# EAGLE library part QSE-060-01 (library 1A-meinLib)
0,80mm HI-SPEED SOCKET QSE Serie Source: http://www.samtec.com/ftppub/cpdf/QSE-XXX-01-X-D-XX-FOOTPRINT.pdf http://www.samtec.com/ftppub/pdf/QSE.PDF
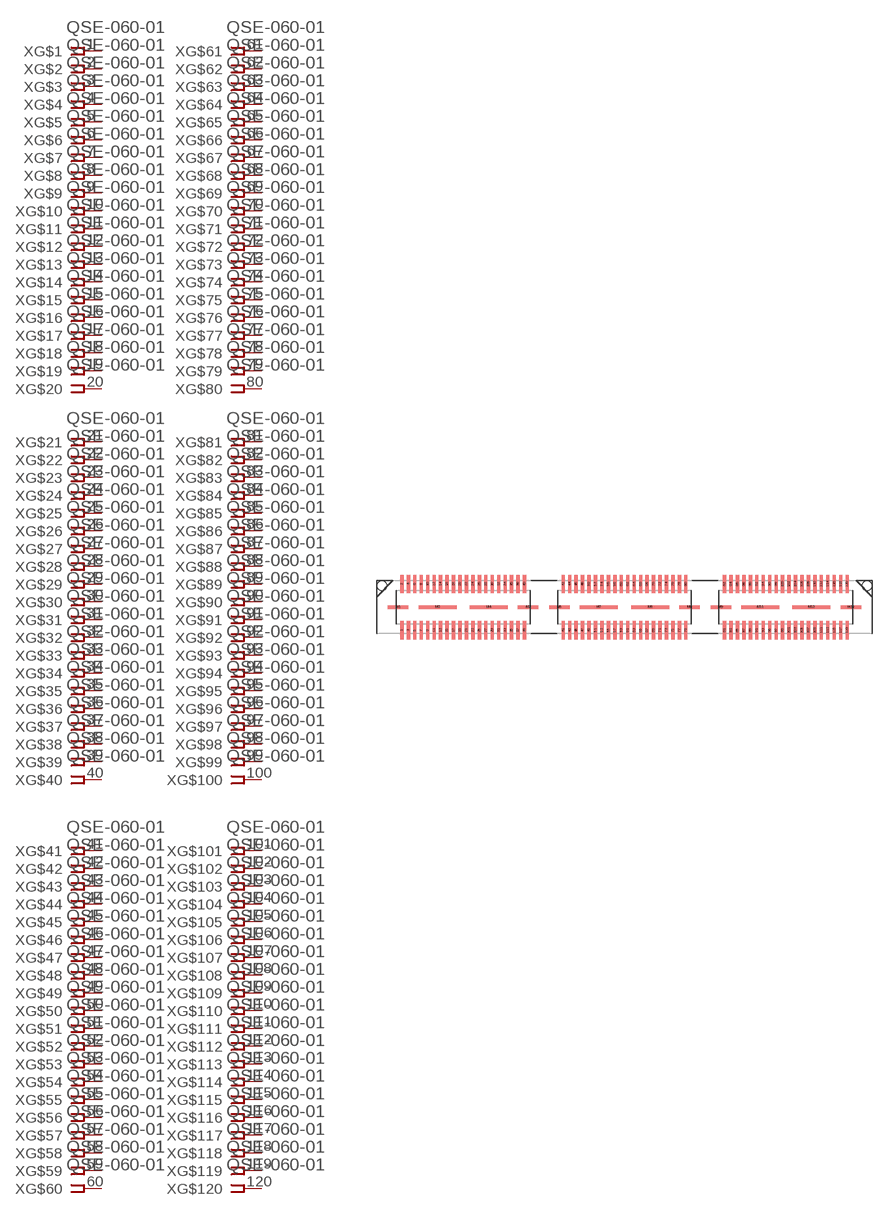
[diagram p383: symbol with the pads of QSE-060-01; footprint QSE-060-01]

Designator prefix X; gates G$1=FPINV G$2=FPINV G$3=FPINV G$4=FPINV G$5=FPINV G$6=FPINV G$7=FPINV G$8=FPINV G$9=FPINV G$10=FPINV G$11=FPINV G$12=FPINV G$13=FPINV G$14=FPINV G$15=FPINV G$16=FPINV G$17=FPINV G$18=FPINV G$19=FPINV G$20=FPINV G$21=FPINV G$22=FPINV G$23=FPINV G$24=FPINV G$25=FPINV G$26=FPINV G$27=FPINV G$28=FPINV G$29=FPINV G$30=FPINV G$31=FPINV G$32=FPINV G$33=FPINV G$34=FPINV G$35=FPINV G$36=FPINV G$37=FPINV G$38=FPINV G$39=FPINV G$40=FPINV G$41=FPINV G$42=FPINV G$43=FPINV G$44=FPINV G$45=FPINV G$46=FPINV G$47=FPINV G$48=FPINV G$49=FPINV G$50=FPINV G$51=FPINV G$52=FPINV G$53=FPINV G$54=FPINV G$55=FPINV G$56=FPINV G$57=FPINV G$58=FPINV G$59=FPINV G$60=FPINV G$61=FPINV G$62=FPINV G$63=FPINV G$64=FPINV G$65=FPINV G$66=FPINV G$67=FPINV G$68=FPINV G$69=FPINV G$70=FPINV G$71=FPINV G$72=FPINV G$73=FPINV G$74=FPINV G$75=FPINV G$76=FPINV G$77=FPINV G$78=FPINV G$79=FPINV G$80=FPINV G$81=FPINV G$82=FPINV G$83=FPINV G$84=FPINV G$85=FPINV G$86=FPINV G$87=FPINV G$88=FPINV G$89=FPINV G$90=FPINV G$91=FPINV G$92=FPINV G$93=FPINV G$94=FPINV G$95=FPINV G$96=FPINV G$97=FPINV G$98=FPINV G$99=FPINV G$100=FPINV G$101=FPINV G$102=FPINV G$103=FPINV G$104=FPINV G$105=FPINV G$106=FPINV G$107=FPINV G$108=FPINV G$109=FPINV G$110=FPINV G$111=FPINV G$112=FPINV G$113=FPINV G$114=FPINV G$115=FPINV G$116=FPINV G$117=FPINV G$118=FPINV G$119=FPINV G$120=FPINV

## QSE-060-01  [QSE-060-01]
1  G$1:1  pas
2  G$2:1  pas
3  G$3:1  pas
4  G$4:1  pas
5  G$5:1  pas
6  G$6:1  pas
7  G$7:1  pas
8  G$8:1  pas
9  G$9:1  pas
10  G$10:1  pas
11  G$11:1  pas
12  G$12:1  pas
13  G$13:1  pas
14  G$14:1  pas
15  G$15:1  pas
16  G$16:1  pas
17  G$17:1  pas
18  G$18:1  pas
19  G$19:1  pas
20  G$20:1  pas
21  G$21:1  pas
22  G$22:1  pas
23  G$23:1  pas
24  G$24:1  pas
25  G$25:1  pas
26  G$26:1  pas
27  G$27:1  pas
28  G$28:1  pas
29  G$29:1  pas
30  G$30:1  pas
31  G$31:1  pas
32  G$32:1  pas
33  G$33:1  pas
34  G$34:1  pas
35  G$35:1  pas
36  G$36:1  pas
37  G$37:1  pas
38  G$38:1  pas
39  G$39:1  pas
40  G$40:1  pas
41  G$41:1  pas
42  G$42:1  pas
43  G$43:1  pas
44  G$44:1  pas
45  G$45:1  pas
46  G$46:1  pas
47  G$47:1  pas
48  G$48:1  pas
49  G$49:1  pas
50  G$50:1  pas
51  G$51:1  pas
52  G$52:1  pas
53  G$53:1  pas
54  G$54:1  pas
55  G$55:1  pas
56  G$56:1  pas
57  G$57:1  pas
58  G$58:1  pas
59  G$59:1  pas
60  G$60:1  pas
61  G$61:1  pas
62  G$62:1  pas
63  G$63:1  pas
64  G$64:1  pas
65  G$65:1  pas
66  G$66:1  pas
67  G$67:1  pas
68  G$68:1  pas
69  G$69:1  pas
70  G$70:1  pas
71  G$71:1  pas
72  G$72:1  pas
73  G$73:1  pas
74  G$74:1  pas
75  G$75:1  pas
76  G$76:1  pas
77  G$77:1  pas
78  G$78:1  pas
79  G$79:1  pas
80  G$80:1  pas
81  G$81:1  pas
82  G$82:1  pas
83  G$83:1  pas
84  G$84:1  pas
85  G$85:1  pas
86  G$86:1  pas
87  G$87:1  pas
88  G$88:1  pas
89  G$89:1  pas
90  G$90:1  pas
91  G$91:1  pas
92  G$92:1  pas
93  G$93:1  pas
94  G$94:1  pas
95  G$95:1  pas
96  G$96:1  pas
97  G$97:1  pas
98  G$98:1  pas
99  G$99:1  pas
100  G$100:1  pas
101  G$101:1  pas
102  G$102:1  pas
103  G$103:1  pas
104  G$104:1  pas
105  G$105:1  pas
106  G$106:1  pas
107  G$107:1  pas
108  G$108:1  pas
109  G$109:1  pas
110  G$110:1  pas
111  G$111:1  pas
112  G$112:1  pas
113  G$113:1  pas
114  G$114:1  pas
115  G$115:1  pas
116  G$116:1  pas
117  G$117:1  pas
118  G$118:1  pas
119  G$119:1  pas
120  G$120:1  pas

## Footprint QSE-060-01 (pad centres in mm)
QSE-060-01-L-D-A, High Speed Ground Plate Socked, samtec
smd 0.41 x 2.27: 1 -27.595,-2.86; 2 -27.595,2.87; 3 -26.795,-2.86; 4 -26.795,2.87; 5 -25.995,-2.86; 6 -25.995,2.87; 7 -25.195,-2.86; 8 -25.195,2.87; 9 -24.395,-2.86; 10 -24.395,2.87; 11 -23.595,-2.86; 12 -23.595,2.87; 13 -22.795,-2.86; 14 -22.795,2.87; 15 -21.995,-2.86; 16 -21.995,2.87; 17 -21.195,-2.86; 18 -21.195,2.87; 19 -20.395,-2.86; 20 -20.395,2.87; 21 -19.595,-2.86; 22 -19.595,2.87; 23 -18.795,-2.86; 24 -18.795,2.87; 25 -17.995,-2.86; 26 -17.995,2.87; 27 -17.195,-2.86; 28 -17.195,2.87; 29 -16.395,-2.86; 30 -16.395,2.87; 31 -15.595,-2.86; 32 -15.595,2.87; 33 -14.795,-2.86; 34 -14.795,2.87; 35 -13.995,-2.86; 36 -13.995,2.87; 37 -13.195,-2.86; 38 -13.195,2.87; 39 -12.395,-2.86; 40 -12.395,2.87; 41 -7.595,-2.86; 42 -7.595,2.87; 43 -6.795,-2.86; 44 -6.795,2.87; 45 -5.995,-2.86; 46 -5.995,2.87; 47 -5.195,-2.86; 48 -5.195,2.87; 49 -4.395,-2.86; 50 -4.395,2.87; 51 -3.595,-2.86; 52 -3.595,2.87; 53 -2.795,-2.86; 54 -2.795,2.87; 55 -1.995,-2.86; 56 -1.995,2.87; 57 -1.195,-2.86; 58 -1.195,2.87; 59 -0.395,-2.86; 60 -0.395,2.87; 61 0.405,-2.86; 62 0.405,2.87; 63 1.205,-2.86; 64 1.205,2.87; 65 2.005,-2.86; 66 2.005,2.87; 67 2.805,-2.86; 68 2.805,2.87; 69 3.605,-2.86; 70 3.605,2.87; 71 4.405,-2.86; 72 4.405,2.87; 73 5.205,-2.86; 74 5.205,2.87; 75 6.005,-2.86; 76 6.005,2.87; 77 6.805,-2.86; 78 6.805,2.87; 79 7.605,-2.86; 80 7.605,2.87; 81 12.405,-2.86; 82 12.405,2.87; 83 13.205,-2.86; 84 13.205,2.87; 85 14.005,-2.86; 86 14.005,2.87; 87 14.805,-2.86; 88 14.805,2.87; 89 15.605,-2.86; 90 15.605,2.87; 91 16.405,-2.86; 92 16.405,2.87; 93 17.205,-2.86; 94 17.205,2.87; 95 18.005,-2.86; 96 18.005,2.87; 97 18.805,-2.86; 98 18.805,2.87; 99 19.605,-2.86; 100 19.605,2.87; 101 20.405,-2.86; 102 20.405,2.87; 103 21.205,-2.86; 104 21.205,2.87; 105 22.005,-2.86; 106 22.005,2.87; 107 22.805,-2.86; 108 22.805,2.87; 109 23.605,-2.86; 110 23.605,2.87; 111 24.405,-2.86; 112 24.405,2.87; 113 25.205,-2.86; 114 25.205,2.87; 115 26.005,-2.86; 116 26.005,2.87; 117 26.805,-2.86; 118 26.805,2.87; 119 27.605,-2.86; 120 27.605,2.87
smd 2.54 x 0.43: M1 -28.065,0; M2 -11.935,0; M5 -8.065,0; M6 8.065,0; M9 11.935,0; M10 28.065,0
smd 4.7 x 0.43: M3 -23.175,0; M4 -16.825,0; M7 -3.175,0; M8 3.175,0; M11 16.825,0; M12 23.175,0
hole 1.2 at 30.06,2.67
hole 1.2 at -30.06,2.67